# EAGLE library part TPS61089 (library CougsInSpace-IC-Power)
DC/DC Converter Boost 7A TPS61089 <https://github.com/CougsInSpace/Resources/blob/master/SupplierDocuments/Ti/TPS61089_BoostConverter.pdf>
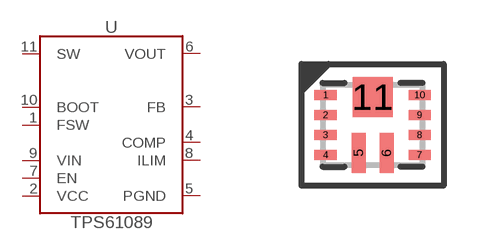
[diagram p7: symbol with the pads of QFN-TPS61089; footprint QFN-TPS61089]

Designator prefix U

## TPS61089 (SKU: 60-0010; VALUE: TPS61089)  [QFN-TPS61089]
1  FSW  in
2  VCC  pwr
3  FB  in
4  COMP  out
5  PGND  pwr
6  VOUT  out
7  EN  in
8  ILIM  out
9  VIN  in
10  BOOT  in
11  SW  pwr

## Footprint QFN-TPS61089 (pad centres in mm)
Quad Flat No-Leads (QFN) - 1 pins - 2.5 x 2.0 mm - For TPS61089
smd 0.55 x 0.25: 1 -1.175,0.75; 2 -1.175,0.25; 3 -1.175,-0.25; 4 -1.175,-0.75; 7 1.175,-0.75; 8 1.175,-0.25; 9 1.175,0.25; 10 1.175,0.75
smd 0.35 x 1: 5 -0.35,-0.7; 6 0.35,-0.7
smd 1 x 1: 11 0,0.7